# EAGLE library part 1-770969-0 (library con-tyco)
Mini-Universal MATE-N-LOK
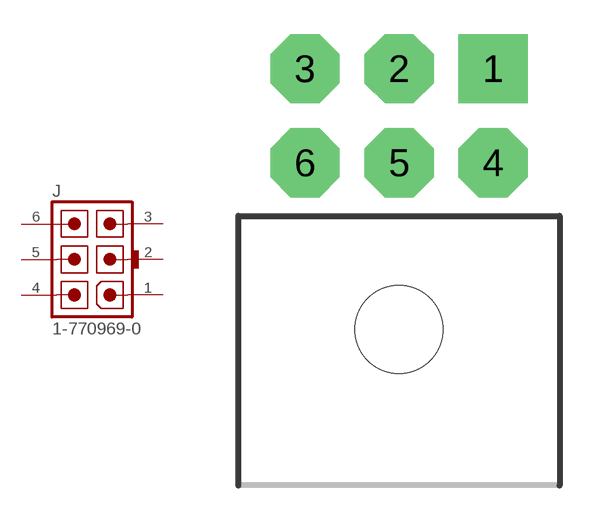
[diagram p22: symbol with the pads of 1-770969-0; footprint 1-770969-0]

Designator prefix J

## 1-770969-0  [1-770969-0]
1  1  pas
2  2  pas
3  3  pas
4  4  pas
5  5  pas
6  6  pas

## Footprint 1-770969-0 (pad centres in mm)
Mini-Universal MATE-N-LOK
drill 1.422 pad 3.048 square: 1 4.14,11.48
drill 1.422 pad 3.048 octagon: 2 0,11.48; 3 -4.14,11.48; 4 4.14,7.34; 5 0,7.34; 6 -4.14,7.34
hole 3.86 at 0,0